# Altium footprint library MLACHE_J.PCBLIB: 73 footprints (part 1 of 5)
Each footprint in its own frame and in the unit in brackets; x right, y up, seen from the top. Pads: shape width x height; smd on the part's side, far side on the other; paste and mask are expansions set on the pad; w line width, h text height; cw(c..) or ccw(c..) is an arc to the next point about the centre after c.
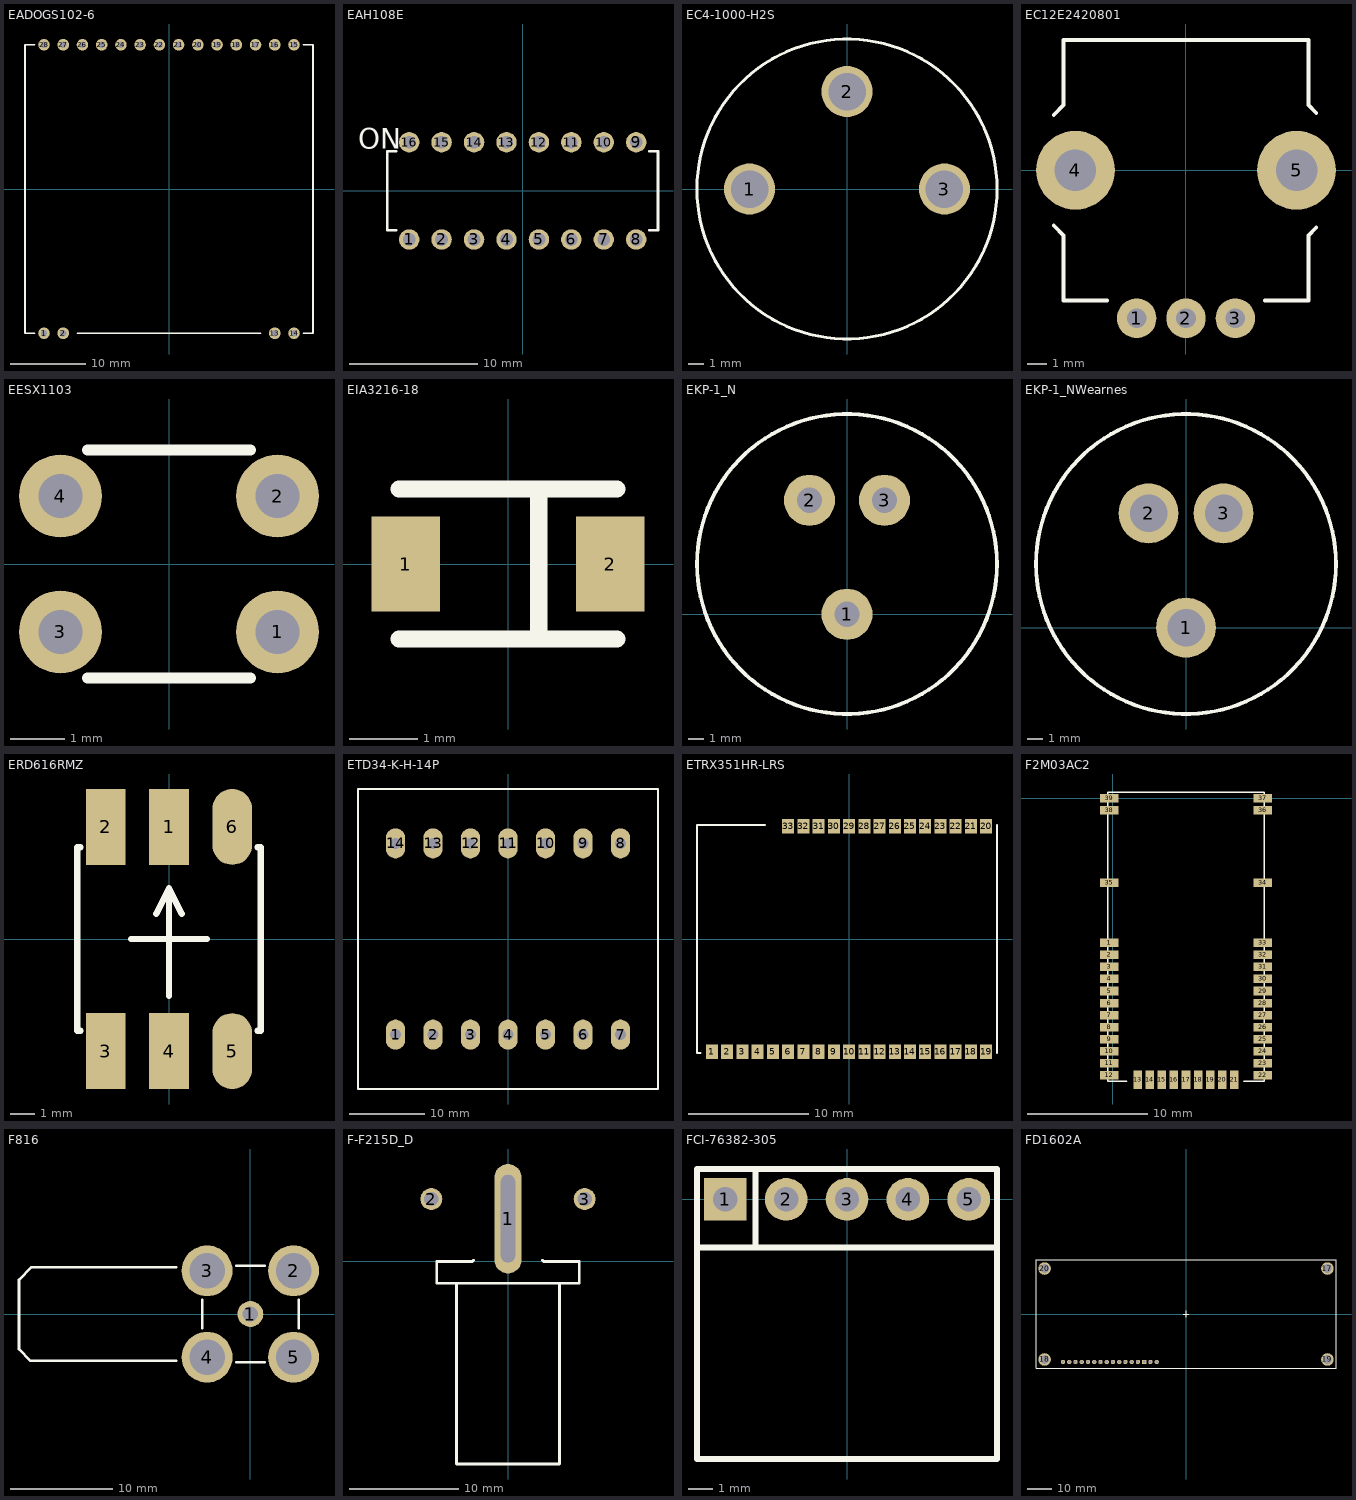
[diagram p0: the footprints below, top view; thin cyan lines are the x and y axes]

## EADOGS102-6 [mil]
pads (18):
  round 60 hole 32: 1(-650,-750) 2(-550,-750) 13(550,-750) 14(650,-750) 15(650,750) 16(550,750) 17(450,750) 18(350,750) 19(250,750) 20(150,750) 21(50,750) 22(-50,750) 23(-150,750) 24(-250,750) 25(-350,750) 26(-450,750) 27(-550,750) 28(-650,750)
TopOverlay:
  lines w10: -700,-750 -748.03,-750 -748.03,750 -700,750 ; -475,-750 475,-750 ; 700,-750 748.03,-750 748.03,750 700,750
3D body: height 86.61, standoff 82.68, extent -662.4,-478.15 662.4,403.35
3D body: height 78.74, standoff 0, extent -748.03,-750 748.03,750
3D body: height 82.68, standoff 78.74, extent -708.66,-529.53 708.66,454.72
3D body: height 78.74, standoff -78.74, extent -661.42,742.13 -637.8,757.87
3D body: height 78.74, standoff -78.74, extent -561.42,742.13 -537.8,757.87
3D body: height 78.74, standoff -78.74, extent -461.42,742.13 -437.8,757.87
3D body: height 78.74, standoff -78.74, extent -361.42,742.13 -337.8,757.87
3D body: height 78.74, standoff -78.74, extent -261.42,742.13 -237.8,757.87
3D body: height 78.74, standoff -78.74, extent -161.42,742.13 -137.8,757.87
3D body: height 78.74, standoff -78.74, extent -61.42,742.13 -37.8,757.87
3D body: height 78.74, standoff -78.74, extent 38.58,742.13 62.2,757.87
3D body: height 78.74, standoff -78.74, extent 138.58,742.13 162.2,757.87
3D body: height 78.74, standoff -78.74, extent 238.58,742.13 262.2,757.87
3D body: height 78.74, standoff -78.74, extent 338.58,742.13 362.2,757.87
3D body: height 78.74, standoff -78.74, extent 438.58,742.13 462.2,757.87
3D body: height 78.74, standoff -78.74, extent 538.58,742.13 562.2,757.87
3D body: height 78.74, standoff -78.74, extent 638.58,742.13 662.2,757.87
3D body: height 78.74, standoff -78.74, extent 638.58,-757.87 662.2,-742.13
3D body: height 78.74, standoff -78.74, extent 538.58,-757.87 562.2,-742.13
3D body: height 78.74, standoff -78.74, extent -561.42,-757.87 -537.8,-742.13
3D body: height 78.74, standoff -78.74, extent -661.42,-757.87 -637.8,-742.13

## EAH108E [mm]
pads (16):
  round 1.6 hole 1 paste+0 mask+0.04: 1(-8.89,-3.81) 2(-6.35,-3.81) 3(-3.81,-3.81) 4(-1.27,-3.81) 5(1.27,-3.81) 6(3.81,-3.81) 7(6.35,-3.81) 8(8.89,-3.81) 9(8.89,3.81) 10(6.35,3.81) 11(3.81,3.81) 12(1.27,3.81) 13(-1.27,3.81) 14(-3.81,3.81) 15(-6.35,3.81) 16(-8.89,3.81)
TopOverlay:
  lines w0.2: -9.9,3.1 -10.6,3.1 -10.6,-3.1 -9.9,-3.1 ; 9.9,3.1 10.6,3.1 10.6,-3.1 9.9,-3.1 ; -9.9,-3.1 -9.9,-3.1 ; 9.9,-3.1 9.9,-3.1
  text "ON" at -12.9,3.3 h1.6

## EC4-1000-H2S [mm]
pads (3):
  round 3.4 hole 2.5 mask+0.3: 1(-6.5,0) 2(0,6.5) 3(6.5,0)
TopOverlay:
  circle w0.2: c0,0 r10
3D body: height 16.6, standoff 0, extent -10.079,-9.961 9.842,10

## EC12E2420801 [mm]
pads (5):
  round 2 hole 1: 1(-2.5,-7.5) 2(0,-7.5) 3(2.5,-7.5)
  round 4 hole 2.1: 4(-5.6,0) 5(5.6,0)
TopOverlay:
  lines w0.2: -6.7,-2.8 -6.2,-3.3 -6.2,-6.6 -4,-6.6 ; -6.7,2.8 -6.2,3.3 -6.2,6.6 6.2,6.6 6.2,3.3 6.6,2.9 ; 4,-6.6 6.2,-6.6 6.2,-3.3 6.6,-2.9
3D body: height 5, standoff -2, extent 2,-7.7 3,-7.3
3D body: height 5, standoff -2, extent -0.5,-7.7 0.5,-7.3
3D body: height 5, standoff -2, extent -3,-7.7 -2,-7.3
3D body: height 6.5, standoff 4.5, extent -1.4,-7 1.2,-6.6
3D body: height 25, standoff 0, extent -3,-3 2.976,2.988
3D body: height 12.5, standoff 5.5, extent -4.5,-4.5 4.465,4.482
3D body: height 5.5, standoff 4.5, extent -6.2,-6.6 6.2,6.6
3D body: height 4.5, standoff 0, extent -6.2,-6.6 6.2,6.6
3D body: height 5, standoff 4.8, extent -3,-7.7 -2,-6.5
3D body: height 5, standoff 4.8, extent -0.5,-7.7 0.5,-6.5
3D body: height 5, standoff 4.8, extent 2,-7.7 3,-6.5

## EESX1103 [mil]
pads (4):
  round 60 hole 32: 1(78.74,-49.21) 2(78.74,49.21) 3(-78.74,-49.21) 4(-78.74,49.21)
TopOverlay:
  lines w8: -59.06,-82.68 59.06,-82.68 ; -59.06,82.68 59.06,82.68

## EIA3216-18 [mm]
pads (2):
  rect 1x1.4 smd: 1(-1.5,0) 2(1.5,0)
TopOverlay:
  lines w0.254: -1.6,-1.1 1.6,-1.1 ; -1.6,1.1 1.6,1.1 ; 0.45,-1 0.45,0 0.45,1
3D body: height 1.8, standoff 0, extent -1.5,-1 1.5,1
3D body: height 1.8, standoff 0, extent 1.5,-0.7 1.6,0.7
3D body: height 1.8, standoff 0, extent -1.6,-0.7 -1.5,0.7

## EKP-1_N [mm]
pads (3):
  round 3.4 hole 1.7: 1(0,0) 2(-2.5,7.6) 3(2.5,7.6)
TopOverlay:
  circle w0.254: c0,3.35 r10
3D body: height 16, standoff 0, extent -10,-6.65 9.921,13.311
3D body: height 0, standoff -3, extent -3.25,6.85 -1.756,8.347
3D body: height 0, standoff -3, extent 1.75,6.85 3.244,8.347
3D body: height 0, standoff -3, extent -0.75,-0.75 0.744,0.747

## EKP-1_NWearnes [mm]
pads (3):
  round 4 hole 2.5: 1(0,0) 2(-2.5,7.62) 3(2.5,7.62)
TopOverlay:
  circle w0.254: c0,4.24 r10
3D body: height 16, standoff 0, extent -10,-6.65 9.921,13.311
3D body: height 0, standoff -3, extent -3.25,6.85 -1.756,8.347
3D body: height 0, standoff -3, extent 1.75,6.85 3.244,8.347
3D body: height 0, standoff -3, extent -0.75,-0.75 0.744,0.747

## ERD616RMZ [mil]
pads (6):
  rect 63x120 smd: 1(0,177.17) 2(-100,177.17) 3(-100,-177.17) 4(0,-177.17)
  oval 63x120 smd: 5(100,-177.17) 6(100,177.17)
TopOverlay:
  lines w10: -140,-145 -145,-145 -145,145 -140,145 ; -60,0 60,0 ; -20,40 0,80 ; 0,-90 0,80 ; 20,40 0,80 ; 140,-145 145,-145 145,145 140,145

## ETD34-K-H-14P [mm]
pads (14):
  oval 2.6x4 hole 1.5: 1(-15,-12.75) 2(-10,-12.75) 3(-5,-12.75) 4(0,-12.75) 5(5,-12.75) 6(10,-12.75) 7(15,-12.75) 8(15,12.75) 9(10,12.75) 10(5,12.75) 11(0,12.75) 12(-5,12.75) 13(-10,12.75) 14(-15,12.75)
TopOverlay:
  lines w0.25: -20,-20 20,-20 20,20 -20,20 -20,-20
3D body: height 27, standoff 13, extent -18,-16.7 -16.5,-10.7
3D body: height 27, standoff 13, extent 16.5,-16.7 18,-10.7
3D body: height 27, standoff 13, extent 16.5,10.7 18,16.7
3D body: height 27, standoff 13, extent -18,10.7 -16.5,16.7
3D body: height 27, standoff 25, extent -20,-20 20,-10.7
3D body: height 27, standoff 25, extent -20,10.7 20,20
3D body: height 8, standoff -2, extent -0.504,12.202 0.492,13.2
3D body: height 8, standoff -2, extent -5.504,12.202 -4.508,13.2
3D body: height 8, standoff -2, extent -10.504,12.202 -9.508,13.2
3D body: height 8, standoff -2, extent -15.504,12.202 -14.508,13.2
3D body: height 8, standoff -2, extent 14.508,12.202 15.504,13.2
3D body: height 8, standoff -2, extent 9.508,12.202 10.504,13.2
3D body: height 8, standoff -2, extent 4.508,12.202 5.504,13.2
3D body: height 8, standoff -2, extent 4.504,-13.2 5.5,-12.202
3D body: height 8, standoff -2, extent 9.504,-13.2 10.5,-12.202
3D body: height 8, standoff -2, extent 14.504,-13.2 15.5,-12.202
3D body: height 8, standoff -2, extent -15.5,-13.2 -14.504,-12.202
3D body: height 8, standoff -2, extent -10.5,-13.2 -9.504,-12.202
3D body: height 8, standoff -2, extent -5.5,-13.2 -4.504,-12.202
3D body: height 8, standoff -2, extent -0.5,-13.2 0.496,-12.202
3D body: height 30.7, standoff 5.8, extent -12.475,-11.7 12.475,-10.7
3D body: height 30.8, standoff 5.9, extent -12.475,10.7 12.475,11.7
3D body: height 29.71, standoff 6.8, extent -11.5,-10.7 11.455,10.7
3D body: height 24, standoff 12.6, extent -17.3,-19 17.3,-0.1
3D body: height 24, standoff 12.6, extent -17.3,0.1 17.3,19
3D body: height 13, standoff 4.5, extent -20,-20 -18,-10.7
3D body: height 13, standoff 0, extent -20,16 -18,20
3D body: height 13, standoff 0, extent 18,16 20,20
3D body: height 13, standoff 0, extent 18,-20 20,-16
3D body: height 13, standoff 0, extent -20,-20 -18,-16
3D body: height 13, standoff 4.5, extent -20,10.7 -18,20
3D body: height 13, standoff 4.5, extent -20,-16 20,-10.7
3D body: height 13, standoff 4.5, extent 18,10.7 20,20
3D body: height 13, standoff 4.5, extent 18,-20 20,-10.7
3D body: height 13, standoff 11, extent -20,10.7 20,20
3D body: height 13, standoff 11, extent -20,-20 20,-10.7

## ETRX351HR-LRS [mm]
pads (33):
  rect 1x1.2 smd: 1(-11.43,-9.4) 2(-10.16,-9.4) 3(-8.89,-9.4) 4(-7.62,-9.4) 5(-6.35,-9.4) 6(-5.08,-9.4) 7(-3.81,-9.4) 8(-2.54,-9.4) 9(-1.27,-9.4) 10(0,-9.4) 11(1.27,-9.4) 12(2.54,-9.4) 13(3.81,-9.4) 14(5.08,-9.4) 15(6.35,-9.4) 16(7.62,-9.4) 17(8.89,-9.4) 18(10.16,-9.4) 19(11.43,-9.4) 20(11.43,9.4) 21(10.16,9.4) 22(8.89,9.4) 23(7.62,9.4) 24(6.35,9.4) 25(5.08,9.4) 26(3.81,9.4) 27(2.54,9.4) 28(1.27,9.4) 29(0,9.4) 30(-1.27,9.4) 31(-2.54,9.4) 32(-3.81,9.4) 33(-5.08,9.4)
TopOverlay:
  lines w0.2: -12.4,-9.5 -12.67,-9.5 -12.67,9.5 -7,9.5 ; 12.33,-9.5 12.33,9.5
3D body: height 1.55, standoff 0, extent -12.67,-9.5 12.33,9.5
3D body: height 1.78, standoff 0, extent -11.989,-9.525 -10.871,-8.636
3D body: height 1.78, standoff 0, extent -10.719,-9.525 -9.601,-8.636
3D body: height 1.78, standoff 0, extent -9.449,-9.525 -8.331,-8.636
3D body: height 1.78, standoff 0, extent -8.179,-9.525 -7.061,-8.636
3D body: height 1.78, standoff 0, extent -6.909,-9.525 -5.791,-8.636
3D body: height 1.78, standoff 0, extent -5.639,-9.525 -4.521,-8.636
3D body: height 1.78, standoff 0, extent -4.369,-9.525 -3.251,-8.636
3D body: height 1.78, standoff 0, extent -3.099,-9.525 -1.981,-8.636
3D body: height 1.78, standoff 0, extent -1.829,-9.525 -0.711,-8.636
3D body: height 1.78, standoff 0, extent -0.559,-9.525 0.559,-8.636
3D body: height 1.78, standoff 0, extent 0.711,-9.525 1.829,-8.636
3D body: height 1.78, standoff 0, extent 1.981,-9.525 3.099,-8.636
3D body: height 1.78, standoff 0, extent 3.251,-9.525 4.369,-8.636
3D body: height 1.78, standoff 0, extent 4.521,-9.525 5.639,-8.636
3D body: height 1.78, standoff 0, extent 5.791,-9.525 6.909,-8.636
3D body: height 1.78, standoff 0, extent 7.061,-9.525 8.179,-8.636
3D body: height 1.78, standoff 0, extent 8.331,-9.525 9.449,-8.636
3D body: height 1.78, standoff 0, extent 9.601,-9.525 10.719,-8.636
3D body: height 1.78, standoff 0, extent 10.871,-9.525 11.989,-8.636
3D body: height 1.78, standoff 0, extent 10.871,8.636 11.989,9.525
3D body: height 1.78, standoff 0, extent 9.601,8.636 10.719,9.525
3D body: height 1.78, standoff 0, extent 8.331,8.636 9.449,9.525
3D body: height 1.78, standoff 0, extent 7.061,8.636 8.179,9.525
3D body: height 1.78, standoff 0, extent 5.791,8.636 6.909,9.525
3D body: height 1.78, standoff 0, extent 4.521,8.636 5.639,9.525
3D body: height 1.78, standoff 0, extent 3.251,8.636 4.369,9.525
3D body: height 1.78, standoff 0, extent 1.981,8.636 3.099,9.525
3D body: height 1.78, standoff 0, extent 0.711,8.636 1.829,9.525
3D body: height 1.78, standoff 0, extent -0.559,8.636 0.559,9.525
3D body: height 1.78, standoff 0, extent -1.829,8.636 -0.711,9.525
3D body: height 1.78, standoff 0, extent -3.099,8.636 -1.981,9.525
3D body: height 1.78, standoff 0, extent -4.369,8.636 -3.251,9.525
3D body: height 1.78, standoff 0, extent -5.639,8.636 -4.521,9.525
3D body: height 3, standoff 0, extent -5.715,-8.128 11.811,8.128
3D body: height 2, standoff 1.5, extent -10,-7.35 -7.3,-4.75
3D body: height 3.5, standoff 1.5, extent -9.65,-7.1 -7.658,-5.104

## F2M03AC2 [mil]
pads (39):
  rect 60x28 smd: 1(-11.81,-472.44) 2(-11.81,-511.81) 3(-11.81,-551.18) 4(-11.81,-590.55) 5(-11.81,-629.92) 6(-11.81,-669.29) 7(-11.81,-708.66) 8(-11.81,-748.03) 9(-11.81,-787.4) 10(-11.81,-826.77) 11(-11.81,-866.14) 12(-11.81,-905.51) 22(488.98,-905.51) 23(488.98,-866.14) 24(488.98,-826.77) 25(488.98,-787.4) 26(488.98,-748.03) 27(488.98,-708.66) 28(488.98,-669.29) 29(488.98,-629.92) 30(488.98,-590.55) 31(488.98,-551.18) 32(488.98,-511.81) 33(488.98,-472.44) 34(488.98,-275.59) 35(-11.81,-275.59) 36(488.98,-39.37) 37(488.98,0) 38(-11.81,-39.37) 39(-11.81,0)
  rect 28x60 smd: 13(81.1,-920.08) 14(120.47,-920.08) 15(159.84,-920.08) 16(199.21,-920.08) 17(238.58,-920.08) 18(277.95,-920.08) 19(317.32,-920.08) 20(356.69,-920.08) 21(396.06,-920.08)
TopOverlay:
  lines w5: 45.28,-925.2 -17.32,-925.2 -17.32,19.68 494.49,19.68 494.49,-925.2 427.17,-925.2

## F816 [mm]
pads (5):
  round 2.54 hole 1.524: 1(0,0)
  round 5 hole 3.5: 2(4.25,4.25) 3(-4.25,4.25) 4(-4.25,-4.25) 5(4.25,-4.25)
TopOverlay:
  lines w0.254: -7.3,-4.6 -21.6,-4.6 -22.75,-3.45 -22.75,3.35 -21.5,4.6 -7.3,4.6 ; -4.75,-1.4 -4.75,1.4 ; -1.4,-4.75 1.4,-4.75 ; -1.4,4.75 1.4,4.75 ; 4.75,-1.4 4.75,1.4

## F-F215D_D [mm]
pads (3):
  oval 2.5x10 hole 1.3 slot 8 at 90 deg: 1(0,3.9)
  round 2 hole 1.3: 2(-7,5.7) 3(7,5.7)
TopOverlay:
  lines w0.254: -4.7,-2 -4.7,-18.5 4.7,-18.5 4.7,-2 ; -3.15,0.1 -3.25,0 -6.5,0 -6.5,-2 6.5,-2 6.5,0 3.25,0 3.15,0.1
3D body: height 5.5, standoff -5.5, extent -6.4,-18.5 6.302,7.3

## FCI-76382-305 [mil]
pads (5):
  rect 70x70 hole 40: 1(-200,0)
  round 70 hole 40: 2(-100,0) 3(0,0) 4(100,0) 5(200,0)
TopOverlay:
  lines w9.84: -246.46,-78.74 246.46,-78.74 ; -150,-78.74 -150,50 ; -246.46,-426.77 -246.46,-50 -246.46,50 246.46,50 246.46,-50 246.46,-426.77 -246.46,-426.77
3D body: height 209.06, standoff -135.03, extent -246.26,-421.26 250.2,13.72

## FD1602A [mil]
pads (20):
  rect 70x70 hole 40: 1(-669.29,-767.72)
  round 70 hole 40: 2(-769.29,-767.72) 3(-869.29,-767.72) 4(-969.29,-767.72) 5(-1069.29,-767.72) 6(-1169.29,-767.72) 7(-1269.29,-767.72) 8(-1369.29,-767.72) 9(-1469.29,-767.72) 10(-1569.29,-767.72) 11(-1669.29,-767.72) 12(-1769.29,-767.72) 13(-1869.29,-767.72) 14(-1969.29,-767.72) 15(-569.29,-767.72) 16(-469.29,-767.72)
  round 200 hole 137.8: 17(2263.78,728.35) 18(-2263.78,-728.35) 19(2263.78,-728.35) 20(-2263.78,728.35)
TopOverlay:
  lines w10: -47.24,0 47.24,0 ; 0,-51.18 0,51.18 ; -2401.57,-866.14 2401.57,-866.14 2401.57,866.14 -2401.57,866.14 -2401.57,-866.14